# EAGLE library part PSCJ-2-XX (library ic)
PSCJ-2-xx: 2-way power splitter 180° (Mini-Circuits) Usable for all plug-in 2-way splitters with A01 case, e.g., PSCJ-2-1, PSCJ-2-2
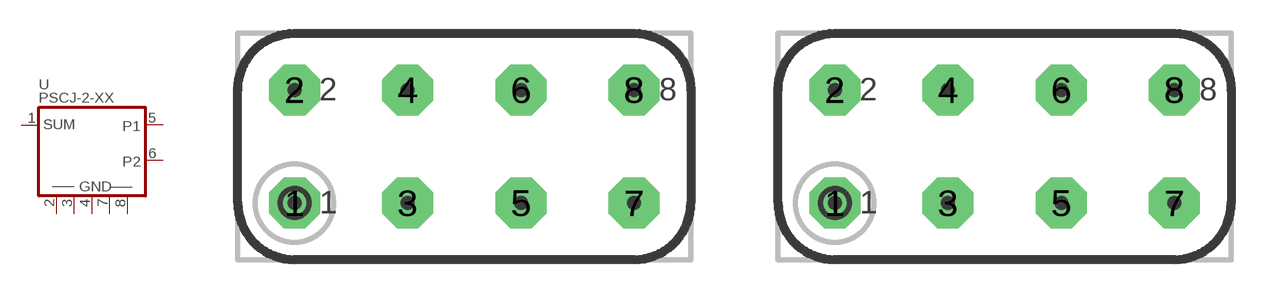
[diagram p70: symbol with the pads of MC-A01N; footprints MC-A01N, MC-A01G]

Designator prefix -

## PSCJ-2-XX  [MC-A01N]
1  SUM
2  GND  pwr
3  GND  pwr
4  GND  pwr
5  P1
6  P2
7  GND  pwr
8  GND  pwr

## PSCJ-2-XXG  [MC-A01G]
Pads as for MC-A01N

## Footprint MC-A01N (pad centres in mm)
Mini-Circuits A01 Metal case (20*10mm), 8 pins, Broken top plane
drill 0.991 pad 2.286 octagon: 1 -7.62,-2.54; 2 -7.62,2.54; 3 -2.54,-2.54; 4 -2.54,2.54; 5 2.54,-2.54; 6 2.54,2.54; 7 7.62,-2.54; 8 7.62,2.54

## Footprint MC-A01G (pad centres in mm)
Mini-Circuits A01 Metal case (20*10mm), 8 pins
drill 0.991 pad 2.286 octagon: 1 -7.62,-2.54; 2 -7.62,2.54; 3 -2.54,-2.54; 4 -2.54,2.54; 5 2.54,-2.54; 6 2.54,2.54; 7 7.62,-2.54; 8 7.62,2.54